# Altium schematic symbol library connectLib.SchLib: 5 symbols
Pins are listed as number, name and electrical type; pins without a type are passive.

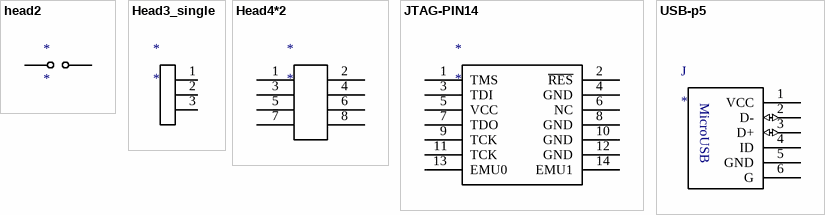
[diagram p0: symbols head2 to USB-p5]

## head2
designator *
footprint HDR1X2
pins: 1 Vss (power), 2 Vss

## Head3_single
designator *
footprint MHDR1X3
pins: 1, 2, 3

## Head4*2
designator *
footprint HDR2X4_CEN
footprint HDR2X4
pins: 1, 2, 3, 4, 5 VCC, 6 9, 7 TDO, 8 GND

## JTAG-PIN14
designator *
pins: 1 TMS, 2 ~{RES}, 3 TDI, 4 GND, 5 VCC, 6 NC, 7 TDO, 8 GND, 9 TCK, 10 GND, 11 TCK, 12 GND, 13 EMU0, 14 EMU1

## USB-p5
designator J
footprint USB_SMD_2.5-6H4_M - duplicate (MicroUSB)
pins: 1 VCC (power), 2 D- (io), 3 D+ (io), 4 ID, 5 GND (power), 6 G
text: MicroUSB